# EAGLE library part WE-RJ45_10G_7499811120 (library WE-RJ45_10G)
WE-RJ45 10G Transformer Characteristics RJ45 connector with integrated transformer & common mode choke 10G Base-T PoE(+) over 4 pairs Compliant with IEEE standards: 802.3af, 802.3at, 802.3an and 802.3bt Suitable for industrial temperatures: -40°C up to +85°C Applications Office and factory access points Gateways Servers High-speed routers and switches HDBaseT applications <https://www.we-online.com/components/media/o122818v209%20Family_WE-RJ45LAN_10G_7499611420_a.jpg> Details see: www.we-online.com/en/components/products/WE-LAN-RJ45-10G <www.we-online.com/catalog/WE-LAN-RJ45-10G/?utm_source=eagle_model&utm_medium=description_link&utm_campaign=eisos_eagle> Create By Ella Wu 2020-10-26 2020 (C) Wurth Elektronik
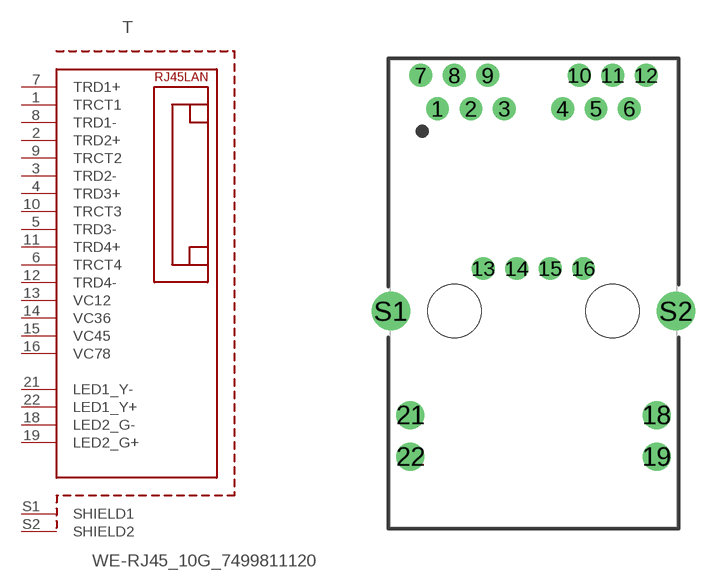
[diagram p1: symbol with the pads of 7499811120; footprint 7499811120]

Designator prefix T

## WE-RJ45_10G_7499811120 (DATA-RATE: 10GBASE-T; DATASHEET-URL: https://www.we-online.com/redexpert/spec/7499811120?ae; IMPROVED-CMRR: No; LED: yellow-green; MOUNT: THT; OPERATING-TEMPERATURE: -40 °C up to +85 °C; PART-NUMBER: 7499811120; PHY-CHIP-MODE: current & voltage; POE: 4PPoE; PORTS: 1; SHIELD-TABS: Yes; TAB: Down; USB: No; VALUE: 7499811120)  [7499811120]
1  TRCT1
2  TRD2+
3  TRD2-
4  TRD3+
5  TRD3-
6  TRCT4
7  TRD1+
8  TRD1-
9  TRCT2
10  TRCT3
11  TRD4+
12  TRD4-
13  VC12
14  VC36
15  VC45
16  VC78
18  LED2_G-
19  LED2_G+
21  LED1_Y-
22  LED1_Y+
S1  SHIELD1  pwr
S2  SHIELD2  pwr

## Footprint 7499811120 (pad centres in mm)
WE-RJ45 10G Transformer 10G Base-T MAX HEIGHT=11.92mm
drill 0.89: 1 -5.86,12.37; 2 -3.82,12.37; 3 -1.78,12.37; 4 1.78,12.37; 5 3.82,12.37; 6 5.86,12.37; 7 -6.88,14.4; 8 -4.84,14.4; 9 -2.8,14.4; 10 2.8,14.4; 11 4.84,14.4; 12 6.88,14.4; 13 -3.06,2.6; 14 -1.02,2.6; 15 1.02,2.6; 16 3.06,2.6
drill 1.14: 18 7.52,-6.35; 19 7.52,-8.89; 21 -7.52,-6.35; 22 -7.52,-8.89
drill 1.57: S1 -8.715,0; S2 8.715,0
hole 3.25 at -4.825,0
hole 3.25 at 4.825,0